# Altium integrated library MOSFET_SMD.IntLib: 1 symbol
Pins are listed as number, name and electrical type; pins without a type are passive.

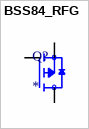
[diagram p0: symbol BSS84_RFG]

## BSS84_RFG
designator Q?
-60V, -0.15A, Single P-Channel Small-signal MOSFETs; MF: Taiwan Semiconductor; MP: BSS84 RFG; SnapEDA_Link: https://www.snapeda.com/parts/BSS84%20RFG/Taiwan+Semiconductor/view-part/?ref=snap; Package: SOT-23-3 Taiwan Semiconductor; Value: *; Check_prices: https://www.snapeda.com/parts/BSS84%20RFG/Taiwan+Semiconductor/view-part/?ref=eda
footprint SOT95P240X115-3N
pins: 1 G, 2 S, 3 D